# Altium schematic symbol library SCH - DRIVER - LED - TI TPS92601-Q1PWP.SchLib: 1 symbol
Pins are listed as number, name and electrical type; pins without a type are passive.

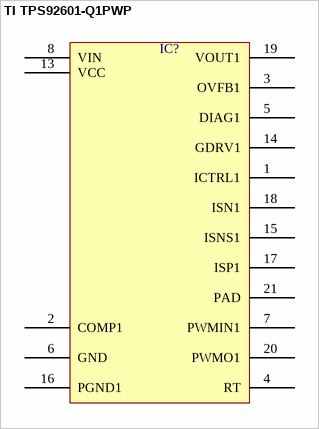
[diagram p0: symbol TI TPS92601-Q1PWP]

## TI TPS92601-Q1PWP
designator IC?  (value not drawn)
pins: 1 ICTRL1, 2 COMP1, 3 OVFB1, 4 RT, 5 DIAG1, 6 GND, 7 PWMIN1, 8 VIN, 13 VCC, 14 GDRV1, 15 ISNS1, 16 PGND1, 17 ISP1, 18 ISN1, 19 VOUT1, 20 PWMO1, 21 PAD